# Altium schematic symbol library BQ41Z50RSNR.SchLib: 1 symbol
Pins are listed as number, name and electrical type; pins without a type are passive.

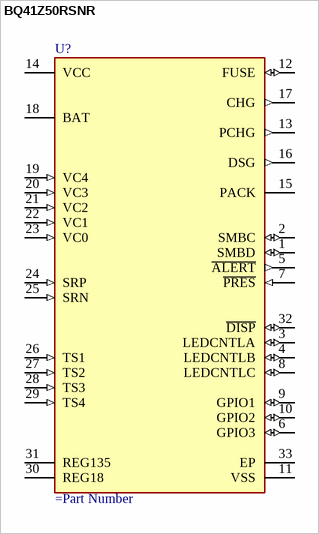
[diagram p0: symbol BQ41Z50RSNR]

## BQ41Z50RSNR
designator U?
Copyright: Copyright (C) 2025 Ultra Librarian. All rights reserved.
pins: 1 SMBD (io), 2 SMBC (io), 3 LEDCNTLA (io), 4 LEDCNTLB (io), 5 ~{ALERT} (out), 6 GPIO3 (io), 7 ~{PRES} (in), 8 LEDCNTLC (io), 9 GPIO1 (io), 10 GPIO2 (io), 11 VSS (power), 12 FUSE (io), 13 PCHG (out), 14 VCC (power), 15 PACK (power), 16 DSG (out), 17 CHG (out), 18 BAT (power), 19 VC4 (in), 20 VC3 (in), 21 VC2 (in), 22 VC1 (in), 23 VC0 (in), 24 SRP (in), 25 SRN (in), 26 TS1 (in), 27 TS2 (in), 28 TS3 (in), 29 TS4 (in), 30 REG18 (power), 31 REG135 (power), 32 ~{DISP} (io), 33 EP